# Altium integrated library EJ503B.IntLib: 1 symbol
Pins are listed as number, name and electrical type; pins without a type are passive.

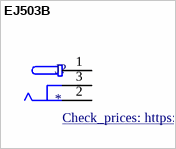
[diagram p0: symbol EJ503B]

## EJ503B
designator J?
CONN PWR JACK 2.5X5.5MM SOLDER; MP: EJ503B; MF: MPD (Memory Protection Devices); Package: None; DigiKey-Purchase-URL: https://snapeda.com/shop?store=DigiKey&id=4874557; Value: *; SnapEDA_Link: https://www.snapeda.com/parts/EJ503B/Memory%20Protection%20Devices/view-part/4874557/?ref=snap; Availability: Warning; Price: None; Check_prices: https://www.snapeda.com/parts/EJ503B/Memory%20Protection%20Devices/view-part/4874557/?ref=eda
footprint MPD_EJ503B
pins: 1, 2, 3